# Altium schematic symbol library DC Barrel Jack.SchLib: 1 symbol
Pins are listed as number, name and electrical type; pins without a type are passive.

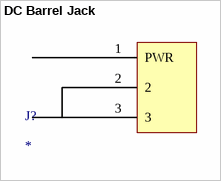
[diagram p0: symbol DC Barrel Jack]

## DC Barrel Jack
designator J?
DC Barrel Jack
footprint SCKT/SM4.5-2H4 (Connector; Low Power Socket, SM, Right Angle, Body 14.8 x 9 x 11 mm (LxWxH))
pins: 1 PWR, 2, 3